# Altium schematic symbol library SM06B-GHS-TB.SchLib: 1 symbol
Pins are listed as number, name and electrical type; pins without a type are passive.

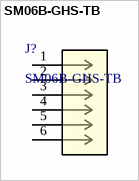
[diagram p0: symbol SM06B-GHS-TB]

## SM06B-GHS-TB
designator J?
CONN HEADER SMD R/A 6POS 1.25MM; Manufacturer_Name: JST; Copyright: Copyright (C) 2025 Ultra Librarian. All rights reserved.; MPN: SM06B-GHS-TB; RefDes: RefDes; Type: Type
footprint CONN_SM06B-GHS-TB_JST
pins: 1, 2, 3, 4, 5, 6